# Altium footprint library DI_LED3mm_STRAIGHT_YELLOW.PcbLib: 1 footprints
Each footprint in its own frame and in the unit in brackets; x right, y up, seen from the top. Pads: shape width x height; smd on the part's side, far side on the other; paste and mask are expansions set on the pad; w line width, h text height; cw(c..) or ccw(c..) is an arc to the next point about the centre after c.
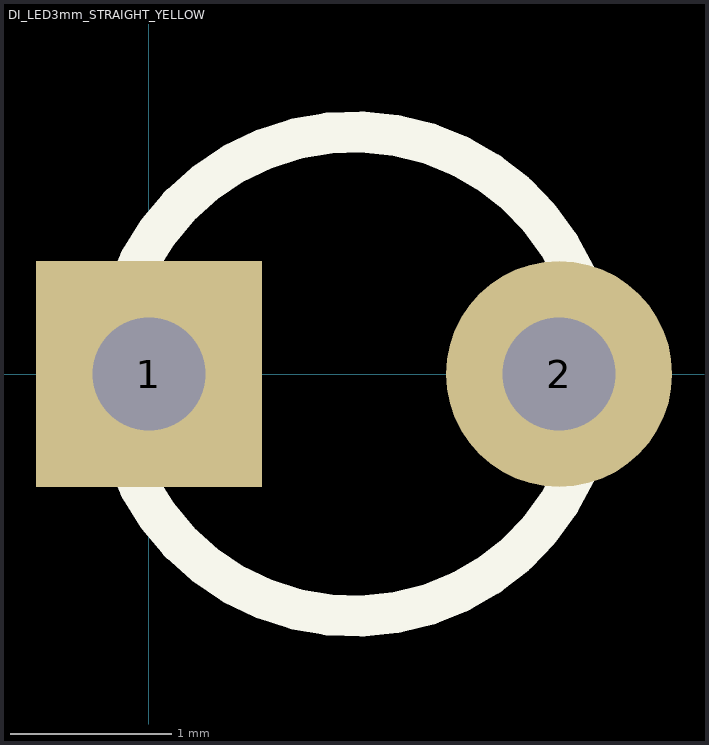
[diagram p0: the footprint, top view; thin cyan lines are the x and y axes]

## DI_LED3mm_STRAIGHT_YELLOW [mm]
pads (2):
  rect 1.4x1.4 hole 0.7: 1(0,0)
  round 1.4 hole 0.7: 2(2.54,0)
Top Overlay:
  circle w0.254: c1.27,0 r1.5
3D body: height 7, standoff -6.25, extent -0.25,-2 3.27,2